# EAGLE library part ATUM-LE (library atum-le)
Atum sensorboard prototyping module.
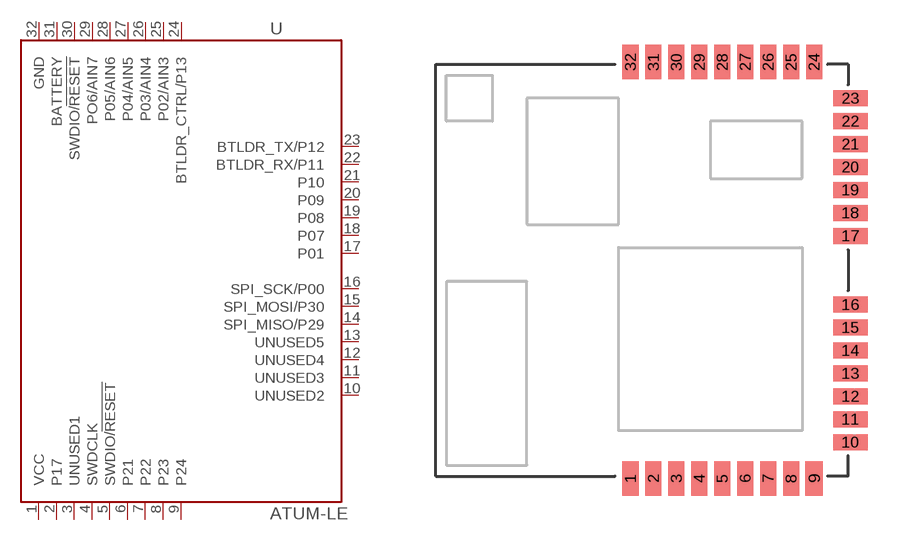
[diagram p1: symbol with the pads of ATUM-LE; footprint ATUM-LE]

Designator prefix U

## ATUM-LE  [ATUM-LE]
1  VCC
2  P17
3  UNUSED1
4  SWDCLK
5  SWDIO/!RESET
6  P21
7  P22
8  P23
9  P24
10  UNUSED2
11  UNUSED3
12  UNUSED4
13  UNUSED5
14  SPI_MISO/P29
15  SPI_MOSI/P30
16  SPI_SCK/P00
17  P01
18  P07
19  P08
20  P09
21  P10
22  BTLDR_RX/P11
23  BTLDR_TX/P12
24  BTLDR_CTRL/P13
25  P02/AIN3
26  P03/AIN4
27  P04/AIN5
28  P05/AIN6
29  PO6/AIN7
30  SWDIO/!RESET
31  BATTERY
32  GND

## Footprint ATUM-LE (pad centres in mm)
smd 0.7 x 1.5: 1 -9.479,-9.079; 2 -8.479,-9.079; 3 -7.479,-9.079; 4 -6.479,-9.079; 5 -5.479,-9.079; 6 -4.479,-9.079; 7 -3.479,-9.079; 8 -2.479,-9.079; 24 -1.479,9.079; 25 -2.479,9.079; 26 -3.479,9.079; 27 -4.479,9.079; 28 -5.479,9.079; 29 -6.479,9.079; 30 -7.479,9.079; 31 -8.479,9.079; 32 -9.479,9.079
smd 0.754 x 1.5: 9 -1.479,-9.079
smd 1.5 x 0.7: 10 0.1,-7.5; 11 0.1,-6.5; 12 0.1,-5.5; 13 0.1,-4.5; 14 0.1,-3.5; 15 0.1,-2.5; 16 0.1,-1.5; 17 0.1,1.5; 18 0.1,2.5; 19 0.1,3.5; 20 0.1,4.5; 21 0.1,5.5; 22 0.1,6.5; 23 0.1,7.5